# Altium schematic symbol library flatsat_platform_2.SchLib: 86 symbols (part 2 of 2)
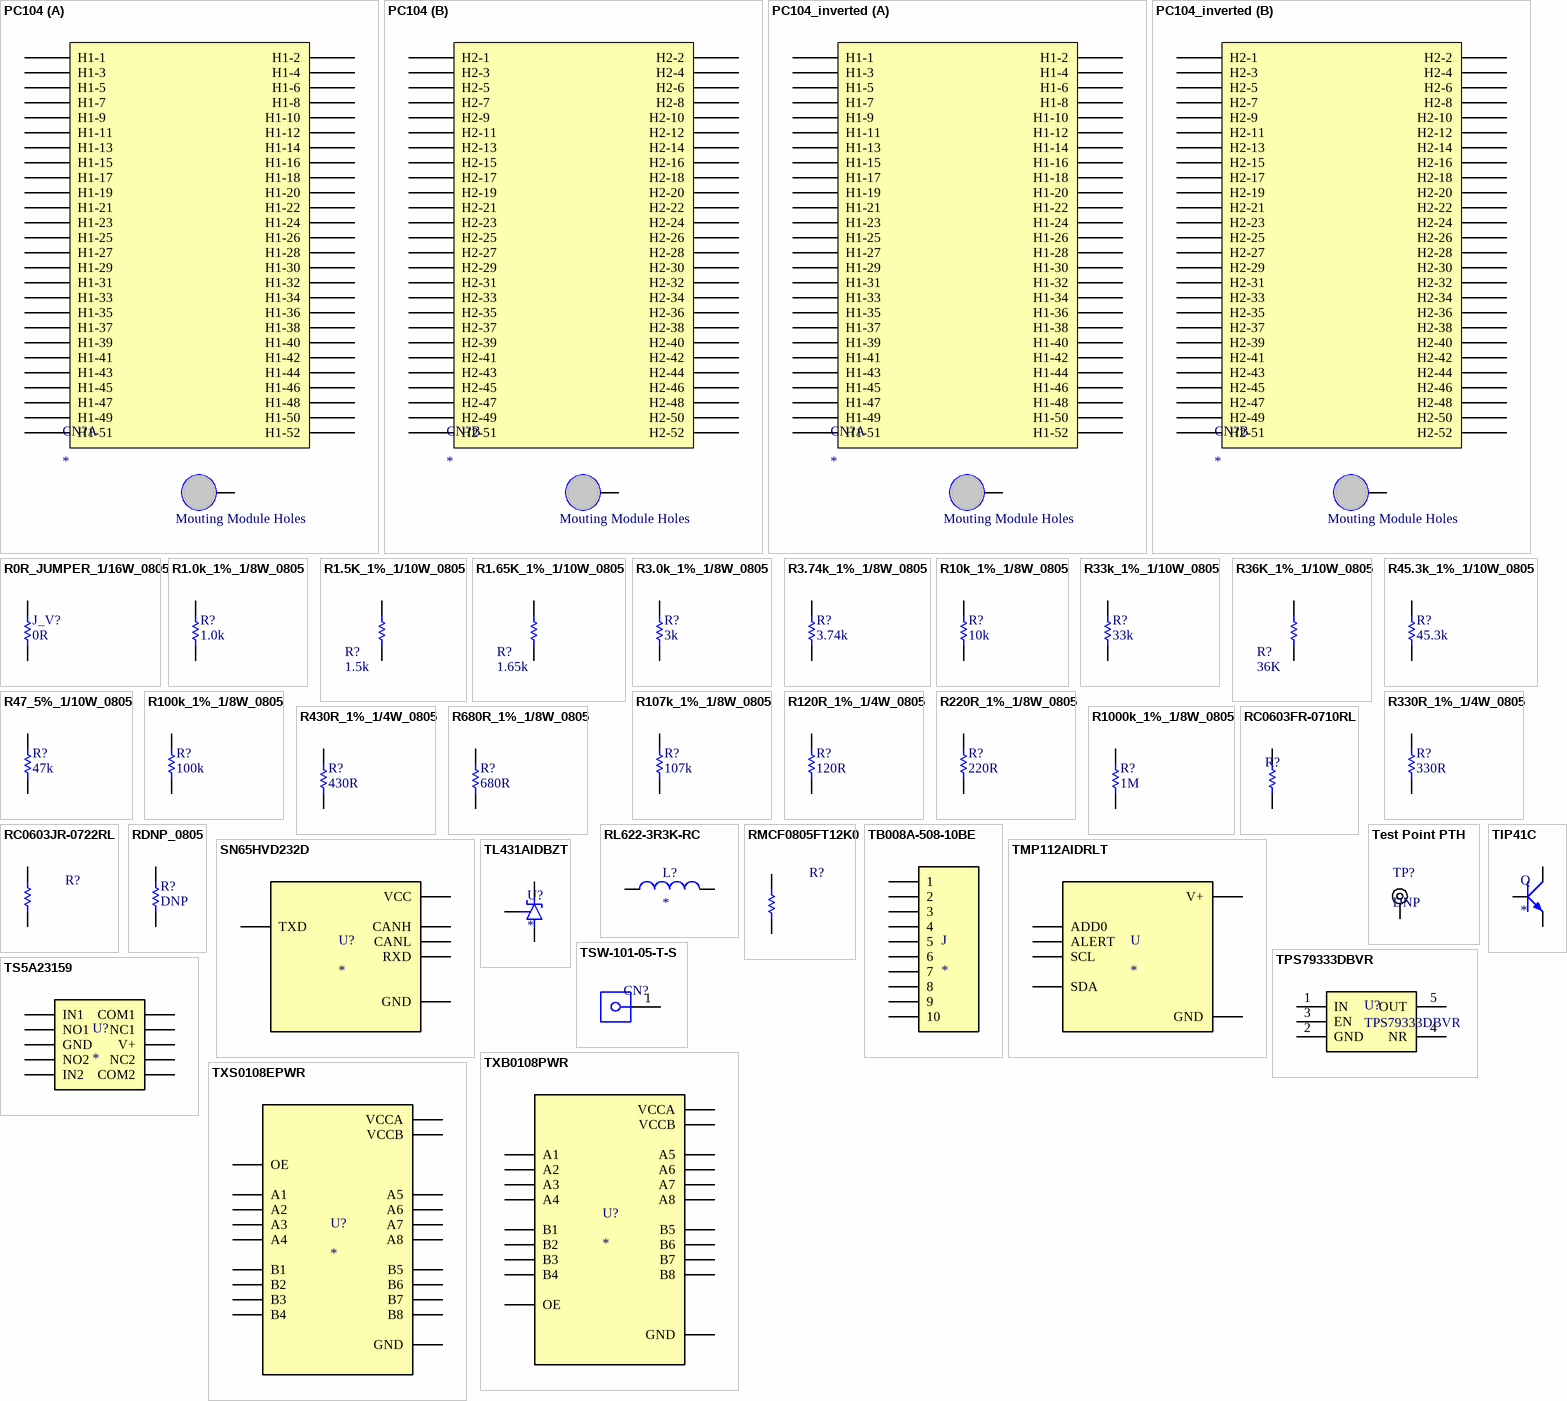
[diagram p3: symbols PC104 to TXS0108EPWR]

## TPS79333DBVR
designator U?
TEXAS INSTRUMENTS - TPS79333DBVR - IC, V REG, LINEAR, 0.2A, SOT-23-5; Number of Outputs: 1; Output Voltage: 3.3V; Max Power Dissipation: 560mW; Max Output Current: 200mA; Max Input Voltage: 5.5V; Min Input Voltage: 2.7V; Polarity: Positive; Quiescent Current: 200uA; Accuracy: 2%; Output Type: Fixed; Dropout Voltage: 102mV; Min Current Limit: 285mA; Input Bias Current: 170uA; Supplier 1: Digi-Key; Supplier Part Number 1: 296-12961-1-ND; Manufacturer: Texas Instruments; Stock 1: 21565; Pricing 1: 1=0.73, 10=0.64, 25=0.6016, 100=0.4559, 250=0.388, 500=0.3686, 1000=0.2813 (USD); Case/Package: SOT-23; Number of Pins: 5; Min Operating Temperature: -40°C; Max Operating Temperature: 125°C; Output Current: 200mA; Packaging: Tape and Reel; Package Quantity: 1; Number of Regulators: 1; Min Output Voltage: 3.3V; Power Dissipation: 560mW; Max Output Voltage: 3.3V; Output Voltage Accuracy: 2%; Nominal Output Voltage: 3.3V; Power Rating: 560mW; Max Supply Voltage: 5.5V; Min Supply Voltage: 2.7V; Termination: SMD/SMT; Current Rating: 200mA; Length: 2.9mm; Height: 1.15mm; Width: 1.6mm; Radiation Hardening: No; Lead Free: Lead Free; REACH SVHC: No SVHC; ComponentLink1URL: http://www.ti.com/general/docs/lit/getliterature.tsp?genericPartNumber=TPS793&amp;&amp;fileType=pdf&src-supplier=Farnell; ComponentLink1Description: http://www.ti.com/general/docs/lit/getliterature.tsp?genericPartNumber=TPS793&amp;&amp;fileType=pdf&src-supplier=Farnell; ComponentLink2URL: http://www.jameco.com/Jameco/Products/ProdDS/1123416.pdf?src-supplier=Jameco; ComponentLink2Description: http://www.jameco.com/Jameco/Products/ProdDS/1123416.pdf?src-supplier=Jameco; Supplier 2: Mouser; Supplier Part Number 2: 595-TPS79333DBVR; Stock 2: 31707; Pricing 2: 1=0.72, 10=0.6, 100=0.379, 1000=0.289, 2000=0.282, 3000=0.252, 9000=0.242, 48000=0.233 (USD); Manufacturer Part Number: TPS79333DBVR
footprint SOT23-5
pins: 1 IN, 2 GND, 3 EN, 4 NR, 5 OUT

## TS5A23159
designator U?
Texas Instruments TS5A23159 Dual SPDT Analog Switch  Datasheet: http://www.ti.com/lit/ds/scds201g/scds201g.pdf; Package: None; Price: None; Value: *; Manufacturer Part Number: TS5A23159; Availability: Unavailable
footprint 10MSOP
footprint SOP50P490X110-10N
pins: 1 IN1 (power), 2 NO1 (power), 3 GND (power), 4 NO2 (power), 5 IN2 (power), 6 COM2 (power), 7 NC2 (power), 8 V+ (power), 9 NC1 (power), 10 COM1 (power)

## TSW-101-05-T-S
designator CN?  (value not drawn)
CONN HEADER 1POS .100" SNGL TIN; Manufacturer: Samtec Inc; N of Positions: 2; Pitch: 2.54mm; Mount Type: PTH; Supplier 1: Farnell; Supplier Part Number 1: 1925384; Supplier 2: Newark; Supplier Part Number 2: 84T5043; Supplier 3: Digi-Key; Supplier Part Number 3: SAM1019-02-ND; Supplier 4: Arrow; Supplier Part Number 4: T9xGEsh_w6igb0LY4EP_nwsWhIkhCEmR3qLYTGm2XzA; Supplier 5: Digi-Key; Supplier Part Number 5: SAM1019-01-ND; Supplier 6: Newark; Supplier Part Number 6: 69X6269; Manufacturer Part Number: TSW-101-05-T-S
footprint PIN BAR 1 2.54mm 180 GRAUS - Hide (HEADER 1 2.54mm 180 GRAUS)
pins: 1

## TXB0108PWR
designator U?
8-Bit Bidirectional Voltage-Level Shifter with Auto Direction Sensing and +/-15-kV ESD Protect 20-TSSOP -40 to 85; Manufacturer Part Number: TXB0108PWR; MF: Texas Instruments; SnapEDA_Link: https://www.snapeda.com/parts/TXB0108PWR/Texas%20Instruments/view-part/45111/?ref=snap; Digi-Key_Part_Number: 296-21527-1-ND; Texas_Instruments-Purchase-URL: https://snapeda.com/shop?store=Texas+Instruments&id=45111; Package: TSSOP-20 Texas Instruments; Value: *
footprint SOP65P640X120-20N
footprint SOP65P640X120-20N
pins: 1 A1 (power), 2 VCCA (power), 3 A2 (power), 4 A3 (power), 5 A4 (power), 6 A5 (power), 7 A6 (power), 8 A7 (power), 9 A8 (power), 10 OE (power), 11 GND (power), 12 B8 (power), 13 B7 (power), 14 B6 (power), 15 B5 (power), 16 B4 (power), 17 B3 (power), 18 B2 (power), 19 VCCB (power), 20 B1 (power)

## TXS0108EPWR
designator U?
8-Bit Bidirectional Voltage-Level Shifter For Open-Drain And Push-Pull Application; Manufacturer Part Number: TXS0108EPWR; MF: Texas Instruments; DigiKey-Purchase-URL: https://snapeda.com/shop?store=DigiKey&id=105750; Value: *; Texas_Instruments-Purchase-URL: https://snapeda.com/shop?store=Texas+Instruments&id=105750; Availability: Unavailable; Package: TSSOP-20 Texas Instruments; Mouser-Purchase-URL: https://snapeda.com/shop?store=Mouser&id=105750; SnapEDA_Link: https://www.snapeda.com/parts/TXS0108EPWR/Texas%20Instruments/view-part/105750/?ref=snap; Price: None
footprint SOP65P640X120-20N
footprint SOP65P640X120-20N
pins: 1 A1 (power), 2 VCCA (power), 3 A2 (power), 4 A3 (power), 5 A4 (power), 6 A5 (power), 7 A6 (power), 8 A7 (power), 9 A8 (power), 10 OE (power), 11 GND (power), 12 B8 (power), 13 B7 (power), 14 B6 (power), 15 B5 (power), 16 B4 (power), 17 B3 (power), 18 B2 (power), 19 VCCB (power), 20 B1 (power)